# Altium footprint library UniqueConnectors.PcbLib: 28 footprints (part 1 of 2)
Each footprint in its own frame and in the unit in brackets; x right, y up, seen from the top. Pads: shape width x height; smd on the part's side, far side on the other; paste and mask are expansions set on the pad; w line width, h text height; cw(c..) or ccw(c..) is an arc to the next point about the centre after c.
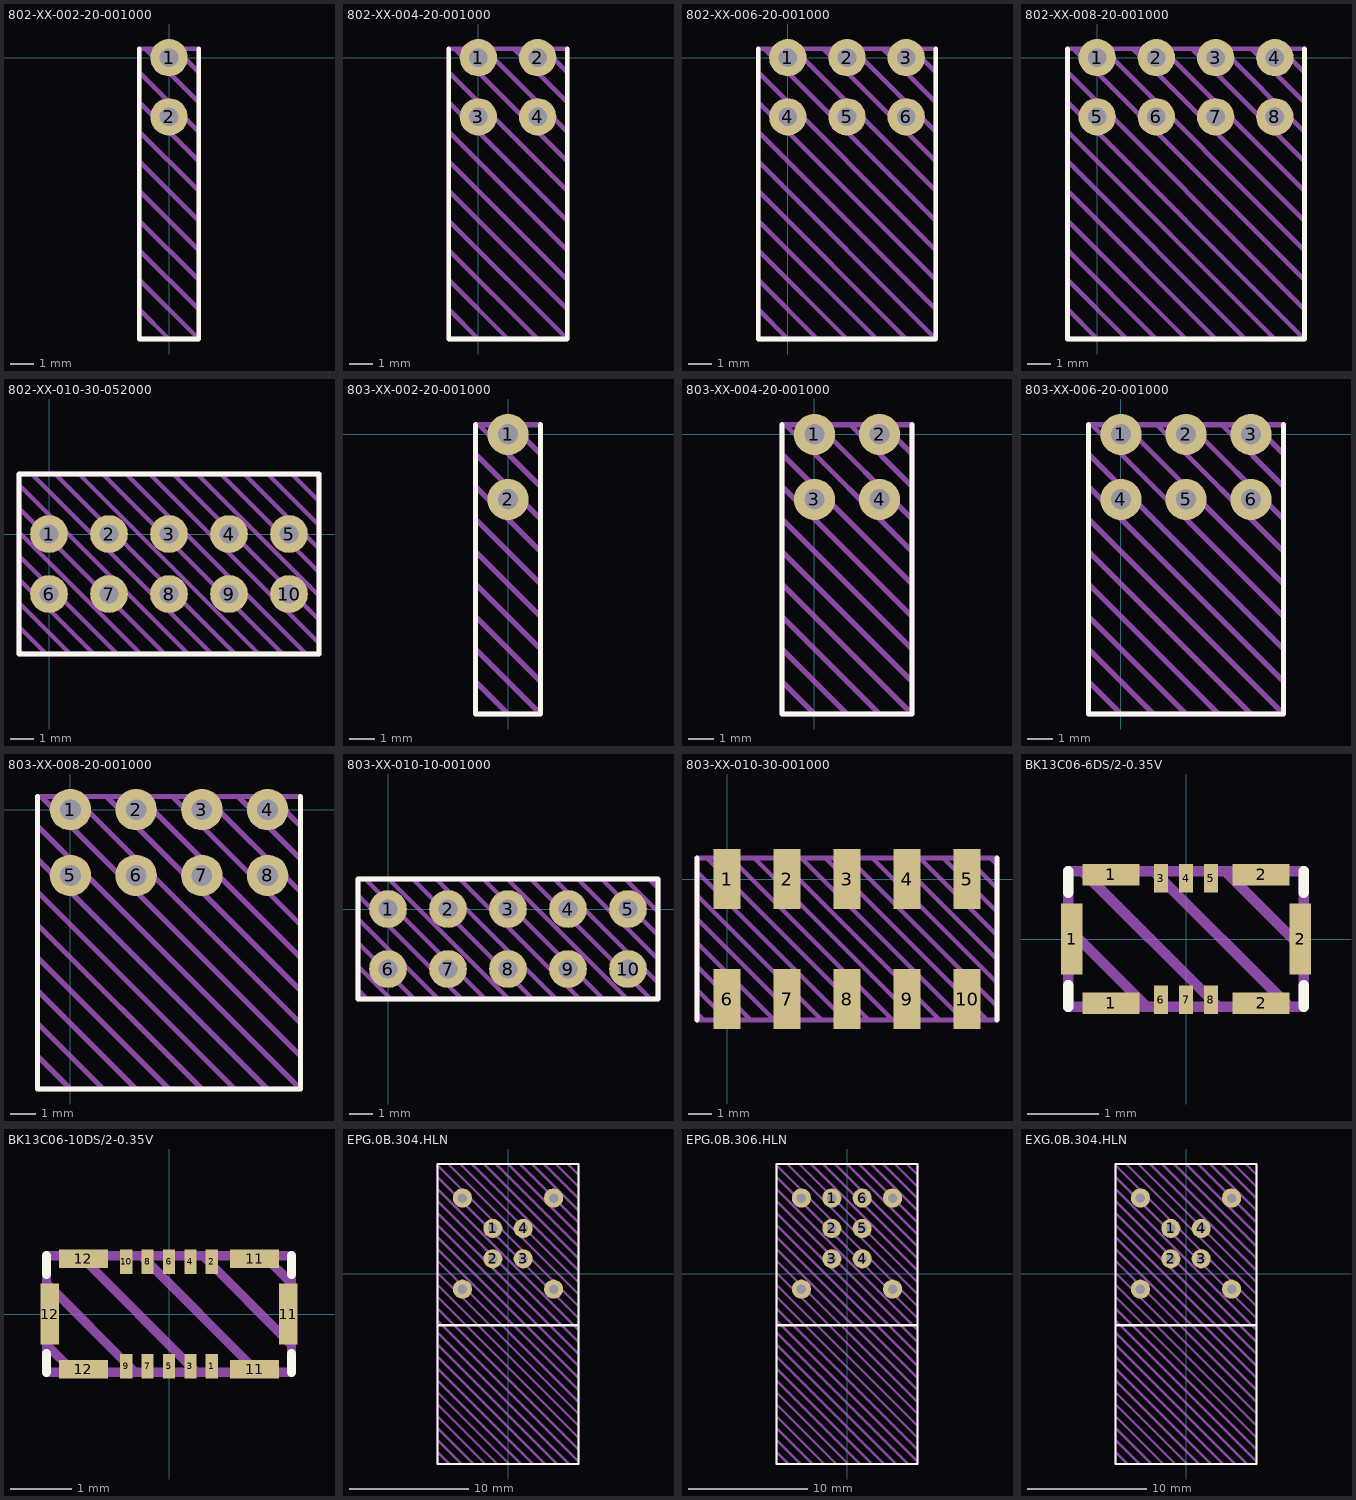
[diagram p0: the footprints below, top view; thin cyan lines are the x and y axes]

## 802-XX-002-20-001000 [mm] "Mill-Max Male Header"
pads (2):
  round 1.6 hole 0.8: 1(0,0) 2(0,-2.54)
Top Overlay:
  lines w0.2: -1.27,0.381 -1.27,-12.065 1.27,-12.065 1.27,0.381
Top Draw:
  lines w0.2: -1.27,-10.795 0,-12.065 ; -1.27,-9.525 1.27,-12.065 ; -1.27,-8.255 1.27,-10.795 ; -1.27,-6.985 1.27,-9.525 ; -1.27,-5.715 1.27,-8.255 ; -1.27,-4.445 1.27,-6.985 ; -1.27,-3.175 1.27,-5.715 ; -1.27,-1.905 1.27,-4.445 ; -1.27,-0.635 1.27,-3.175 ; -1.016,0.381 1.27,-1.905 ; 0.254,0.381 1.27,-0.635 ; 1.27,-12.065 1.27,0.381 -1.27,0.381 -1.27,-12.065 1.27,-12.065
3D body "Mill-Max-802-10-002-20-001000.STEP": height 5.18, standoff -3.1, extent -1.27,-12.065 1.27,0.354

## 802-XX-004-20-001000 [mm] "Mill-Max Male Header"
pads (4):
  round 1.6 hole 0.8: 1(0,0) 2(2.54,0) 3(0,-2.54) 4(2.54,-2.54)
Top Overlay:
  lines w0.2: -1.27,0.381 -1.27,-12.065 3.81,-12.065 3.81,0.381
Top Draw:
  lines w0.2: -1.27,-10.795 0,-12.065 ; -1.27,-9.525 1.27,-12.065 ; -1.27,-8.255 2.54,-12.065 ; -1.27,-6.985 3.81,-12.065 ; -1.27,-5.715 3.81,-10.795 ; -1.27,-4.445 3.81,-9.525 ; -1.27,-3.175 3.81,-8.255 ; -1.27,-1.905 3.81,-6.985 ; -1.27,-0.635 3.81,-5.715 ; -1.016,0.381 3.81,-4.445 ; 0.254,0.381 3.81,-3.175 ; 1.524,0.381 3.81,-1.905 ; 2.794,0.381 3.81,-0.635 ; 3.81,-12.065 -1.27,-12.065 -1.27,0.381 3.81,0.381 3.81,-12.065
3D body "Mill-Max-802-10-004-20-001000.STEP": height 5.18, standoff -3.1, extent -1.27,-12.065 3.81,0.354

## 802-XX-006-20-001000 [mm] "Mill-Max Male Header"
pads (6):
  round 1.6 hole 0.8: 1(0,0) 2(2.54,0) 3(5.08,0) 4(0,-2.54) 5(2.54,-2.54) 6(5.08,-2.54)
Top Overlay:
  lines w0.2: -1.27,0.381 -1.27,-12.065 6.35,-12.065 6.35,0.381
Top Draw:
  lines w0.2: -1.27,-10.795 0,-12.065 ; -1.27,-9.525 1.27,-12.065 ; -1.27,-8.255 2.54,-12.065 ; -1.27,-6.985 3.81,-12.065 ; -1.27,-5.715 5.08,-12.065 ; -1.27,-4.445 6.35,-12.065 ; -1.27,-3.175 6.35,-10.795 ; -1.27,-1.905 6.35,-9.525 ; -1.27,-0.635 6.35,-8.255 ; -1.016,0.381 6.35,-6.985 ; 0.254,0.381 6.35,-5.715 ; 1.524,0.381 6.35,-4.445 ; 2.794,0.381 6.35,-3.175 ; 4.064,0.381 6.35,-1.905 ; 5.334,0.381 6.35,-0.635 ; 6.35,-12.065 -1.27,-12.065 -1.27,0.381 6.35,0.381 6.35,-12.065
3D body "Mill-Max-802-10-006-20-001000.STEP": height 5.18, standoff -3.1, extent -1.27,-12.065 6.35,0.354

## 802-XX-008-20-001000 [mm] "Mill-Max Male Header"
pads (8):
  round 1.6 hole 0.8: 1(0,0) 2(2.54,0) 3(5.08,0) 4(7.62,0) 5(0,-2.54) 6(2.54,-2.54) 7(5.08,-2.54) 8(7.62,-2.54)
Top Overlay:
  lines w0.2: -1.27,0.381 -1.27,-12.065 8.89,-12.065 8.89,0.381
Top Draw:
  lines w0.2: -1.27,-10.795 0,-12.065 ; -1.27,-9.525 1.27,-12.065 ; -1.27,-8.255 2.54,-12.065 ; -1.27,-6.985 3.81,-12.065 ; -1.27,-5.715 5.08,-12.065 ; -1.27,-4.445 6.35,-12.065 ; -1.27,-3.175 7.62,-12.065 ; -1.27,-1.905 8.89,-12.065 ; -1.27,-0.635 8.89,-10.795 ; -1.016,0.381 8.89,-9.525 ; 0.254,0.381 8.89,-8.255 ; 1.524,0.381 8.89,-6.985 ; 2.794,0.381 8.887,-5.712 ; 4.127,0.318 8.89,-4.445 ; 5.334,0.381 8.89,-3.175 ; 6.604,0.381 8.89,-1.905 ; 7.874,0.381 8.89,-0.635 ; 8.89,-12.065 8.89,0.381 -1.27,0.381 -1.27,-12.065 8.89,-12.065
3D body "Mill-Max-802-10-008-20-001000.STEP": height 5.18, standoff -3.1, extent -1.27,-12.065 8.89,0.354

## 802-XX-010-30-052000 [mm] "Mill-Max Female Header"
pads (10):
  round 1.6 hole 0.8: 1(0,0) 2(2.54,0) 3(5.08,0) 4(7.62,0) 5(10.16,0) 6(0,-2.54) 7(2.54,-2.54) 8(5.08,-2.54) 9(7.62,-2.54) 10(10.16,-2.54)
Top Overlay:
  lines w0.2: -1.27,-5.08 11.43,-5.08 11.43,2.54 -1.27,2.54 -1.27,-5.08
Top Draw:
  lines w0.2: -1.27,-4.92 -1.11,-5.08 ; -1.27,-3.92 -0.11,-5.08 ; -1.27,-2.92 0.89,-5.08 ; -1.27,-1.92 1.89,-5.08 ; -1.27,-0.92 2.89,-5.08 ; -1.27,0.08 3.89,-5.08 ; -1.27,1.08 4.89,-5.08 ; -1.27,2.08 5.89,-5.08 ; -0.73,2.54 6.89,-5.08 ; 0.27,2.54 7.89,-5.08 ; 1.27,2.54 8.89,-5.08 ; 2.27,2.54 9.89,-5.08 ; 3.27,2.54 10.89,-5.08 ; 4.27,2.54 11.43,-4.62 ; 5.27,2.54 11.43,-3.62 ; 6.27,2.54 11.43,-2.62 ; 7.27,2.54 11.43,-1.62 ; 8.27,2.54 11.43,-0.62 ; 9.27,2.54 11.43,0.38 ; 10.27,2.54 11.43,1.38 ; 11.27,2.54 11.43,2.38 ; -1.27,-5.08 11.43,-5.08 11.43,2.54 -1.27,2.54 -1.27,-5.08
Top Info:
  text "'.Comment'" at 0.831,-6.552 h1
3D body "mill-max-802-10-010-10-052000.STEP": height 7, standoff -3.03, extent -1.27,-5.016 11.43,2.476

## 803-XX-002-20-001000 [mm] "Mill-Max Female Socket"
pads (2):
  round 1.6 hole 0.8: 1(0,0) 2(0,-2.54)
Top Overlay:
  lines w0.2: -1.27,0.381 -1.27,-10.922 1.27,-10.922 1.27,0.381
Top Draw:
  lines w0.2: -1.27,-9.652 0,-10.922 ; -1.27,-8.382 1.27,-10.922 ; -1.27,-7.112 1.27,-9.652 ; -1.27,-5.842 1.27,-8.382 ; -1.27,-4.572 1.27,-7.112 ; -1.27,-3.302 1.27,-5.842 ; -1.27,-2.032 1.27,-4.572 ; -1.27,-0.762 1.27,-3.302 ; -1.143,0.381 1.27,-2.032 ; 0.127,0.381 1.27,-0.762 ; 1.27,-10.922 1.27,0.381 -1.27,0.381 -1.27,-10.922 1.27,-10.922
3D body "Mill-Max-803-93-002-20-001000.STEP": height 5.18, standoff -3.06, extent -1.27,-10.922 1.27,0.356

## 803-XX-004-20-001000 [mm] "Mill-Max Female Socket"
pads (4):
  round 1.6 hole 0.8: 1(0,0) 2(2.54,0) 3(0,-2.54) 4(2.54,-2.54)
Top Overlay:
  lines w0.2: -1.27,0.381 -1.27,-10.922 3.81,-10.922 3.81,0.381
Top Draw:
  lines w0.2: -1.27,-9.652 0,-10.922 ; -1.27,-8.382 1.27,-10.922 ; -1.27,-7.112 2.54,-10.922 ; -1.27,-5.842 3.81,-10.922 ; -1.27,-4.572 3.81,-9.652 ; -1.27,-3.302 3.81,-8.382 ; -1.27,-2.032 3.81,-7.112 ; -1.27,-0.762 3.81,-5.842 ; -1.143,0.381 3.81,-4.572 ; 0.127,0.381 3.81,-3.302 ; 1.397,0.381 3.81,-2.032 ; 2.667,0.381 3.81,-0.762 ; 3.81,-10.922 -1.27,-10.922 -1.27,0.381 3.81,0.381 3.81,-10.922
3D body "Mill-Max-803-93-004-20-001000.STEP": height 5.18, standoff -3.06, extent -1.27,-10.922 3.81,0.356

## 803-XX-006-20-001000 [mm] "Mill-Max Female Socket"
pads (6):
  round 1.6 hole 0.8: 1(0,0) 2(2.54,0) 3(5.08,0) 4(0,-2.54) 5(2.54,-2.54) 6(5.08,-2.54)
Top Overlay:
  lines w0.2: -1.27,0.381 -1.27,-10.922 6.35,-10.922 6.35,0.381
Top Draw:
  lines w0.2: -1.27,-9.652 0,-10.922 ; -1.27,-8.382 1.27,-10.922 ; -1.27,-7.112 2.54,-10.922 ; -1.27,-5.842 3.81,-10.922 ; -1.27,-4.572 5.08,-10.922 ; -1.27,-3.302 6.35,-10.922 ; -1.27,-2.032 6.35,-9.652 ; -1.27,-0.762 6.35,-8.382 ; -1.143,0.381 6.35,-7.112 ; 0.127,0.381 6.35,-5.842 ; 1.397,0.381 6.35,-4.572 ; 2.667,0.381 6.35,-3.302 ; 3.937,0.381 6.35,-2.032 ; 5.207,0.381 6.35,-0.762 ; 6.35,-10.922 6.35,0.381 -1.27,0.381 -1.27,-10.922 6.35,-10.922
3D body "Mill-Max-803-93-006-20-001000.STEP": height 5.18, standoff -3.06, extent -1.27,-10.922 6.35,0.356

## 803-XX-008-20-001000 [mm] "Mill-Max Female Socket"
pads (8):
  round 1.6 hole 0.8: 1(0,0) 2(2.54,0) 3(5.08,0) 4(7.62,0) 5(0,-2.54) 6(2.54,-2.54) 7(5.08,-2.54) 8(7.62,-2.54)
Top Overlay:
  lines w0.2: -1.27,0.508 -1.27,-10.795 8.89,-10.795 8.89,0.508
Top Draw:
  lines w0.2: -1.27,-9.525 0,-10.795 ; -1.27,-8.255 1.27,-10.795 ; -1.27,-6.985 2.54,-10.795 ; -1.27,-5.715 3.81,-10.795 ; -1.27,-4.445 5.08,-10.795 ; -1.27,-3.175 6.35,-10.795 ; -1.27,-1.905 7.62,-10.795 ; -1.27,-0.635 8.89,-10.795 ; -1.143,0.508 8.89,-9.525 ; 0.127,0.508 8.89,-8.255 ; 1.397,0.508 8.89,-6.985 ; 2.667,0.508 8.89,-5.715 ; 3.937,0.508 8.89,-4.445 ; 5.207,0.508 8.89,-3.175 ; 6.477,0.508 8.89,-1.905 ; 7.747,0.508 8.89,-0.635 ; 8.89,-10.795 -1.27,-10.795 -1.27,0.508 8.89,0.508 8.89,-10.795
3D body "Mill-Max-803-93-008-20-001000.STEP": height 5.18, standoff -3.06, extent -1.27,-10.795 8.89,0.483

## 803-XX-010-10-001000 [mm] "Mill-Max Female Socket"
pads (10):
  round 1.6 hole 0.8: 1(0,0) 2(2.54,0) 3(5.08,0) 4(7.62,0) 5(10.16,0) 6(0,-2.54) 7(2.54,-2.54) 8(5.08,-2.54) 9(7.62,-2.54) 10(10.16,-2.54)
Top Overlay:
  lines w0.2: -1.27,-3.81 11.43,-3.81 11.43,1.27 -1.27,1.27 -1.27,-3.81
Top Draw:
  lines w0.2: -1.27,-3.42 -0.88,-3.81 ; -1.27,-2.42 0.12,-3.81 ; -1.27,-1.42 1.12,-3.81 ; -1.27,-0.42 2.12,-3.81 ; -1.27,0.58 3.12,-3.81 ; -0.96,1.27 4.12,-3.81 ; 0.04,1.27 5.12,-3.81 ; 1.04,1.27 6.12,-3.81 ; 2.04,1.27 7.12,-3.81 ; 3.04,1.27 8.12,-3.81 ; 4.04,1.27 9.12,-3.81 ; 5.04,1.27 10.12,-3.81 ; 6.04,1.27 11.12,-3.81 ; 7.04,1.27 11.43,-3.12 ; 8.04,1.27 11.43,-2.12 ; 9.04,1.27 11.43,-1.12 ; 10.04,1.27 11.43,-0.12 ; 11.04,1.27 11.43,0.88 ; -1.27,-3.81 11.43,-3.81 11.43,1.27 -1.27,1.27 -1.27,-3.81
Top Info:
  text "'.Comment'" at 0.831,-5.282 h1
3D body "mill-max-803-93-010-10-001000.STEP": height 7.1, standoff -3.11, extent -1.27,-3.81 11.43,1.27

## 803-XX-010-30-001000 [mil] "Mill-Max Female Socket"
pads (10):
  rect 45x100 smd: 1(0,0) 2(100,0) 3(200,0) 4(300,0) 5(400,0) 6(0,-200) 7(100,-200) 8(200,-200) 9(300,-200) 10(400,-200)
Top Overlay:
  lines w7.87: -50,-235 -50,35 ; 450,-235 450,35
Top Draw:
  lines w7.87: -50,-224.02 -39.02,-235 ; -50,-184.65 0.35,-235 ; -50,-145.28 39.72,-235 ; -50,-105.91 79.09,-235 ; -50,-66.54 118.46,-235 ; -50,-27.17 157.83,-235 ; -50,12.2 197.2,-235 ; -33.43,35 236.57,-235 ; 5.94,35 275.94,-235 ; 45.31,35 315.31,-235 ; 84.69,35 354.69,-235 ; 124.06,35 394.06,-235 ; 163.43,35 433.43,-235 ; 202.8,35 450,-212.2 ; 242.17,35 450,-172.83 ; 281.54,35 450,-133.46 ; 320.91,35 450,-94.09 ; 360.28,35 450,-54.72 ; 399.65,35 450,-15.35 ; 439.02,35 450,24.02 ; -50,-235 -50,35 450,35 450,-235 -50,-235
Top Info:
  text "'.Comment'" at 32.73,-307.96 h39.37
3D body "mill-max-803-93-010-30-001000.STEP": height 329.92, standoff -0.13, extent -50,-234.55 450,34.55

## BK13C06-6DS/2-0.35V [mm]
pads (12):
  rect 0.3x1 smd: 1(-1.6,0) 2(1.6,0)
  rect 0.8x0.3 smd: 1(-1.05,-0.9) 1(-1.05,0.9) 2(1.05,-0.9) 2(1.05,0.9)
  rect 0.2x0.4 smd: 3(-0.35,0.85) 4(0,0.85) 5(0.35,0.85) 6(-0.35,-0.85) 7(0,-0.85) 8(0.35,-0.85)
Top Overlay:
  lines w0.15: -1.65,-0.95 -1.65,-0.65 ; -1.65,0.65 -1.65,0.95 ; 1.65,-0.95 1.65,-0.65 ; 1.65,0.65 1.65,0.95
Top Draw:
  lines w0.15: -1.65,0.15 -0.55,-0.95 ; -1.45,0.95 0.45,-0.95 ; -0.45,0.95 1.45,-0.95 ; 0.55,0.95 1.65,-0.15 ; -1.65,-0.95 1.65,-0.95 1.65,0.95 -1.65,0.95 -1.65,-0.95
Top Info:
  text "'.Comment'" at -2.124,-1.742 h0.5
3D body "BK13C06-6DS2-0_35V.step": height 0.55, standoff 0, extent -1.65,-0.95 1.65,0.95

## BK13C06-10DS/2-0.35V [mm]
pads (16):
  rect 0.2x0.4 smd: 1(0.7,-0.85) 2(0.7,0.85) 3(0.35,-0.85) 4(0.35,0.85) 5(0,-0.85) 6(0,0.85) 7(-0.35,-0.85) 8(-0.35,0.85) 9(-0.7,-0.85) 10(-0.7,0.85)
  rect 0.8x0.3 smd: 11(1.4,-0.9) 11(1.4,0.9) 12(-1.4,-0.9) 12(-1.4,0.9)
  rect 0.3x1 smd: 11(1.95,0) 12(-1.95,0)
Top Overlay:
  lines w0.15: -2,-0.95 -2,-0.65 ; -2,0.65 -2,0.95 ; 2,-0.95 2,-0.65 ; 2,0.65 2,0.95
Top Draw:
  lines w0.15: -2,-0.5 -1.55,-0.95 ; -2,0.5 -0.55,-0.95 ; -1.45,0.95 0.45,-0.95 ; -0.45,0.95 1.45,-0.95 ; 0.55,0.95 2,-0.5 ; 1.55,0.95 2,0.5 ; -2,-0.95 2,-0.95 2,0.95 -2,0.95 -2,-0.95
Top Info:
  text "'.Comment'" at -2.124,-1.742 h0.5
3D body "BK13C06-10DS2-0.step": height 0.55, standoff 0, extent -2,-0.934 2,0.966

## EPG.0B.304.HLN [mm] "LEMO 0B-Series Elbow Socket"
pads (8):
  round 1.6 hole 0.8: 1(-1.27,3.81) 2(-1.27,1.27) 3(1.27,1.27) 4(1.27,3.81) ""(-3.81,-1.27) ""(-3.81,6.35) ""(3.81,-1.27) ""(3.81,6.35)
Top Overlay:
  lines w0.2: -5.9,-4.3 5.9,-4.3 ; -5.9,-15.9 -5.9,9.2 5.9,9.2 5.9,-15.9 -5.9,-15.9
Top Draw:
  lines w0.2: -5.9,-14.9 -4.9,-15.9 ; -5.9,-13.9 -3.9,-15.9 ; -5.9,-12.9 -2.9,-15.9 ; -5.9,-11.9 -1.9,-15.9 ; -5.9,-10.9 -0.9,-15.9 ; -5.9,-9.9 0.1,-15.9 ; -5.9,-8.9 1.1,-15.9 ; -5.9,-7.9 2.1,-15.9 ; -5.9,-6.9 3.1,-15.9 ; -5.9,-5.9 4.1,-15.9 ; -5.9,-4.9 5.1,-15.9 ; -5.9,-3.9 5.9,-15.7 ; -5.9,-2.9 5.9,-14.7 ; -5.9,-1.9 5.9,-13.7 ; -5.9,-0.9 5.9,-12.7 ; -5.9,0.1 5.9,-11.7 ; -5.9,1.1 5.9,-10.7 ; -5.9,2.1 5.9,-9.7 ; -5.9,3.1 5.9,-8.7 ; -5.9,4.1 5.9,-7.7 ; -5.9,5.1 5.9,-6.7 ; -5.9,6.1 5.9,-5.7 ; -5.9,7.1 5.9,-4.7 ; -5.9,8.1 5.9,-3.7 ; -5.9,9.1 5.9,-2.7 ; -5,9.2 5.9,-1.7 ; -4,9.2 5.9,-0.7 ; -3,9.2 5.9,0.3 ; -2,9.2 5.9,1.3 ; -1,9.2 5.9,2.3 ; 0,9.2 5.9,3.3 ; 1,9.2 5.9,4.3 ; 2,9.2 5.9,5.3 ; 3,9.2 5.9,6.3 ; 4,9.2 5.9,7.3 ; 5,9.2 5.9,8.3 ; -5.9,-15.9 -5.9,9.2 5.9,9.2 5.9,-15.9 -5.9,-15.9
3D body "EPG_0B_304_HLN.stp": height 12.75, standoff -3.15, extent -5.85,-15.856 5.85,9.144

## EPG.0B.306.HLN [mm] "LEMO 0B-Series Elbow Socket"
pads (10):
  round 1.6 hole 0.8: 1(-1.27,6.35) 2(-1.27,3.81) 3(-1.27,1.27) 4(1.27,1.27) 5(1.27,3.81) 6(1.27,6.35) ""(-3.81,-1.27) ""(-3.81,6.35) ""(3.81,-1.27) ""(3.81,6.35)
Top Overlay:
  lines w0.2: -5.9,-4.3 5.9,-4.3 ; -5.9,-15.9 5.9,-15.9 5.9,9.2 -5.9,9.2 -5.9,-15.9
Top Draw:
  lines w0.2: -5.9,-14.9 -4.9,-15.9 ; -5.9,-13.9 -3.9,-15.9 ; -5.9,-12.9 -2.9,-15.9 ; -5.9,-11.9 -1.9,-15.9 ; -5.9,-10.9 -0.9,-15.9 ; -5.9,-9.9 0.1,-15.9 ; -5.9,-8.9 1.1,-15.9 ; -5.9,-7.9 2.1,-15.9 ; -5.9,-6.9 3.1,-15.9 ; -5.9,-5.9 4.1,-15.9 ; -5.9,-4.9 5.1,-15.9 ; -5.9,-3.9 5.9,-15.7 ; -5.9,-2.9 5.9,-14.7 ; -5.9,-1.9 5.9,-13.7 ; -5.9,-0.9 5.9,-12.7 ; -5.9,0.1 5.9,-11.7 ; -5.9,1.1 5.9,-10.7 ; -5.9,2.1 5.9,-9.7 ; -5.9,3.1 5.9,-8.7 ; -5.9,4.1 5.9,-7.7 ; -5.9,5.1 5.9,-6.7 ; -5.9,6.1 5.9,-5.7 ; -5.9,7.1 5.9,-4.7 ; -5.9,8.1 5.9,-3.7 ; -5.9,9.1 5.9,-2.7 ; -5,9.2 5.9,-1.7 ; -4,9.2 5.9,-0.7 ; -3,9.2 5.9,0.3 ; -2,9.2 5.9,1.3 ; -1,9.2 5.9,2.3 ; 0,9.2 5.9,3.3 ; 1,9.2 5.9,4.3 ; 2,9.2 5.9,5.3 ; 3,9.2 5.9,6.3 ; 4,9.2 5.9,7.3 ; 5,9.2 5.9,8.3 ; -5.9,-15.9 5.9,-15.9 5.9,9.2 -5.9,9.2 -5.9,-15.9
3D body "EPG_0B_306_HLN.stp": height 12.75, standoff -3.15, extent -5.85,-15.856 5.85,9.144

## EXG.0B.304.HLN [mm] "LEMO 0B-Series Elbow Socket"
pads (8):
  round 1.6 hole 0.8: 1(-1.27,3.81) 2(-1.27,1.27) 3(1.27,1.27) 4(1.27,3.81) ""(-3.81,-1.27) ""(-3.81,6.35) ""(3.81,-1.27) ""(3.81,6.35)
Top Overlay:
  lines w0.2: -5.9,-4.3 5.9,-4.3 ; -5.9,-15.9 -5.9,9.2 5.9,9.2 5.9,-15.9 -5.9,-15.9
Top Draw:
  lines w0.2: -5.9,-14.9 -4.9,-15.9 ; -5.9,-13.9 -3.9,-15.9 ; -5.9,-12.9 -2.9,-15.9 ; -5.9,-11.9 -1.9,-15.9 ; -5.9,-10.9 -0.9,-15.9 ; -5.9,-9.9 0.1,-15.9 ; -5.9,-8.9 1.1,-15.9 ; -5.9,-7.9 2.1,-15.9 ; -5.9,-6.9 3.1,-15.9 ; -5.9,-5.9 4.1,-15.9 ; -5.9,-4.9 5.1,-15.9 ; -5.9,-3.9 5.9,-15.7 ; -5.9,-2.9 5.9,-14.7 ; -5.9,-1.9 5.9,-13.7 ; -5.9,-0.9 5.9,-12.7 ; -5.9,0.1 5.9,-11.7 ; -5.9,1.1 5.9,-10.7 ; -5.9,2.1 5.9,-9.7 ; -5.9,3.1 5.9,-8.7 ; -5.9,4.1 5.9,-7.7 ; -5.9,5.1 5.9,-6.7 ; -5.9,6.1 5.9,-5.7 ; -5.9,7.1 5.9,-4.7 ; -5.9,8.1 5.9,-3.7 ; -5.9,9.1 5.9,-2.7 ; -5,9.2 5.9,-1.7 ; -4,9.2 5.9,-0.7 ; -3,9.2 5.9,0.3 ; -2,9.2 5.9,1.3 ; -1,9.2 5.9,2.3 ; 0,9.2 5.9,3.3 ; 1,9.2 5.9,4.3 ; 2,9.2 5.9,5.3 ; 3,9.2 5.9,6.3 ; 4,9.2 5.9,7.3 ; 5,9.2 5.9,8.3 ; -5.9,-15.9 -5.9,9.2 5.9,9.2 5.9,-15.9 -5.9,-15.9
3D body "EXG_0B_304_HLN.step": height 12.95, standoff -3.15, extent -5.921,-15.696 5.921,9.144